# Altium integrated library ST Comm CODEC Filter.IntLib: 33 symbols
Pins are listed as number, name and electrical type; pins without a type are passive.

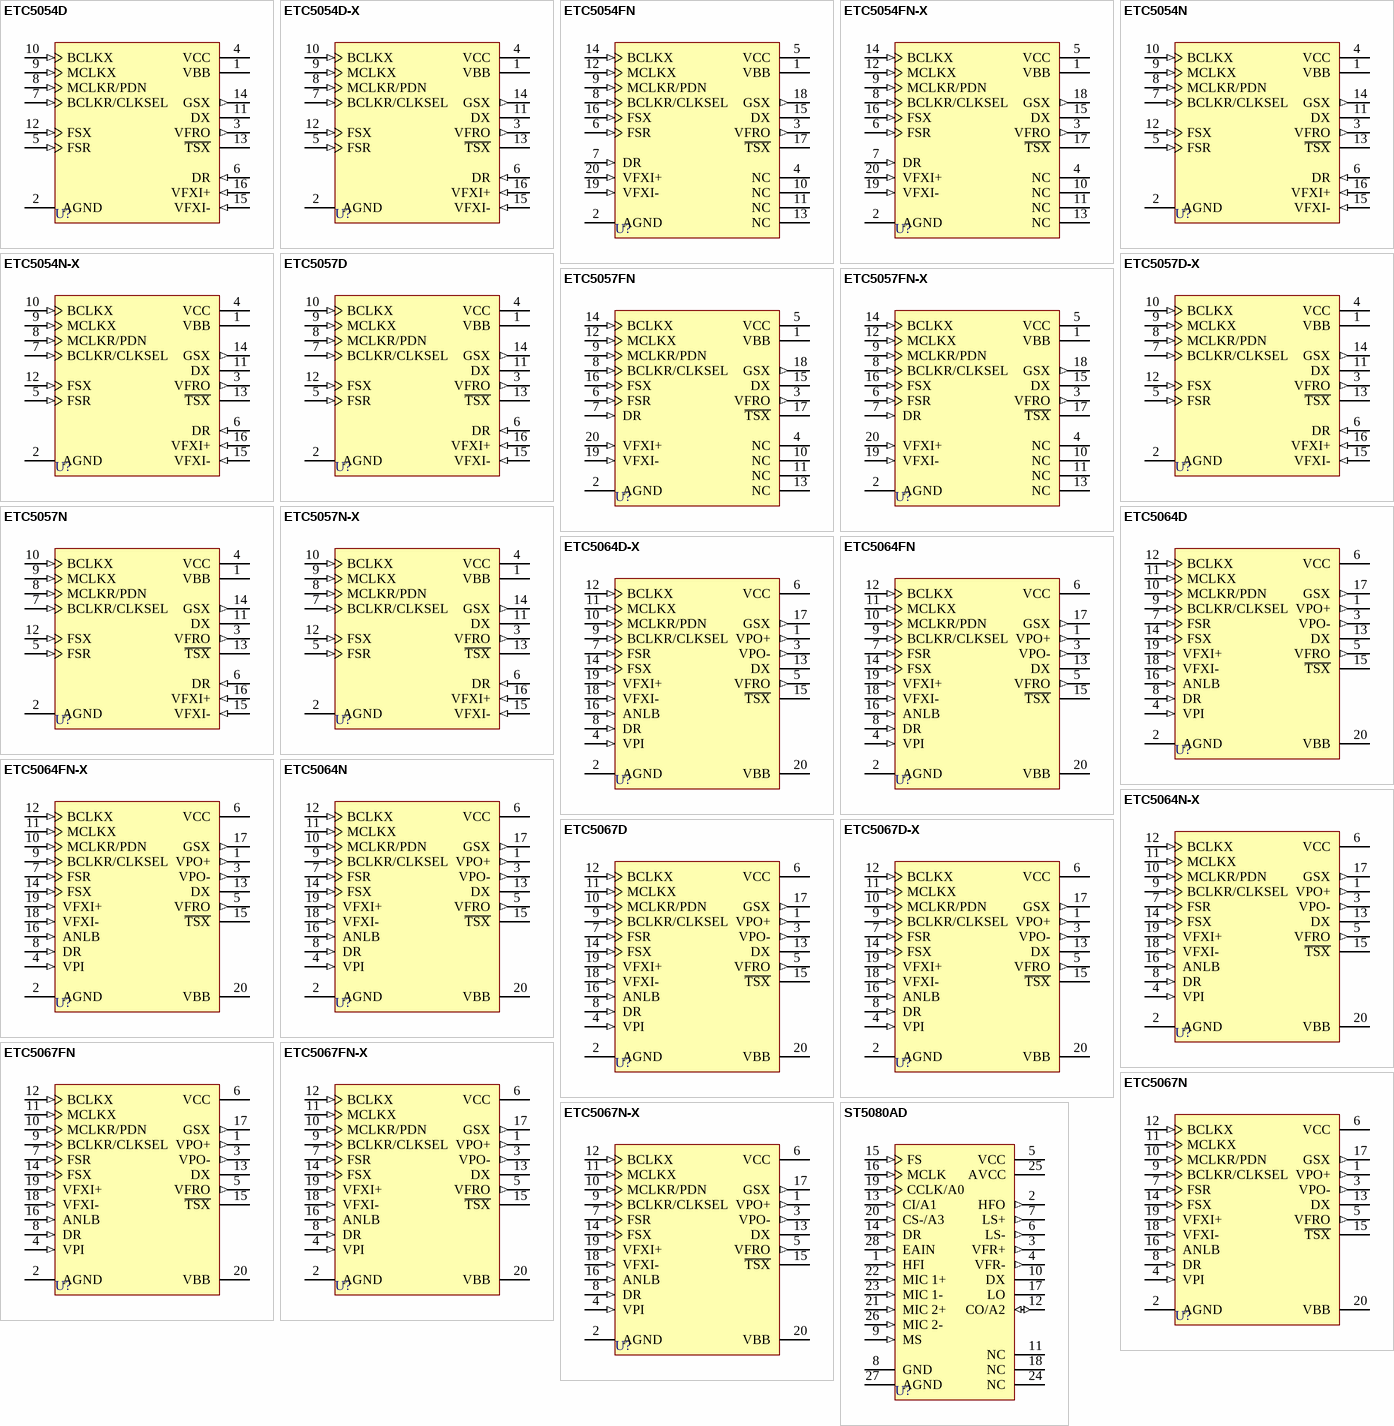
[diagram p0: symbols ETC5054D to ST5080AD]

## ETC5054D
designator U?
Serial Interface CODEC/Filter; Published: 24-Aug-2001; LatestRevisionDate: 17-Jul-2002; LatestRevisionNote: Re-released for DXP Platform.; DatasheetDocument: Nov-1994; PackageDocument: Apr-1998; PackageReference: SO16W; Publisher: Altium Limited; Code_JEDEC: MS-013-AA; Code_IPC: SO16W
footprint SO16W (Small Outline; 16 Leads; Body Width 7.5 mm; Pitch 1.27 mm)
pins: 1 VBB (power), 2 AGND (power), 3 VFRO (out), 4 VCC (power), 5 FSR (in), 6 DR (in), 7 BCLKR/CLKSEL (in), 8 MCLKR/PDN (in), 9 MCLKX (in), 10 BCLKX (in), 11 DX (hiz), 12 FSX (in), 13 ~{TSX} (oc), 14 GSX (out), 15 VFXI- (in), 16 VFXI+ (in)

## ETC5054D-X
designator U?
Serial Interface CODEC/Filter; Published: 24-Aug-2001; LatestRevisionDate: 17-Jul-2002; LatestRevisionNote: Re-released for DXP Platform.; DatasheetDocument: Nov-1994; PackageDocument: Apr-1998; PackageReference: SO16W; Publisher: Altium Limited; Code_JEDEC: MS-013-AA; Code_IPC: SO16W
footprint SO16W (Small Outline; 16 Leads; Body Width 7.5 mm; Pitch 1.27 mm)
pins: 1 VBB (power), 2 AGND (power), 3 VFRO (out), 4 VCC (power), 5 FSR (in), 6 DR (in), 7 BCLKR/CLKSEL (in), 8 MCLKR/PDN (in), 9 MCLKX (in), 10 BCLKX (in), 11 DX (hiz), 12 FSX (in), 13 ~{TSX} (oc), 14 GSX (out), 15 VFXI- (in), 16 VFXI+ (in)

## ETC5054FN
designator U?
Serial Interface CODEC/Filter; Published: 24-Aug-2001; LatestRevisionDate: 17-Jul-2002; LatestRevisionNote: Re-released for DXP Platform.; DatasheetDocument: Nov-1994; PackageDocument: Mar-1992; PackageReference: PLCC20; Publisher: Altium Limited
footprint PLCC20 (Leaded Chip Carrier; 20 Leads; Body 9 x 9 mm)
pins: 1 VBB (power), 2 AGND (power), 3 VFRO (out), 4 NC, 5 VCC (power), 6 FSR (in), 7 DR (in), 8 BCLKR/CLKSEL (in), 9 MCLKR/PDN (in), 10 NC, 11 NC, 12 MCLKX (in), 13 NC, 14 BCLKX (in), 15 DX (hiz), 16 FSX (in), 17 ~{TSX} (oc), 18 GSX (out), 19 VFXI- (in), 20 VFXI+ (in)

## ETC5054FN-X
designator U?
Serial Interface CODEC/Filter; Published: 24-Aug-2001; LatestRevisionDate: 17-Jul-2002; LatestRevisionNote: Re-released for DXP Platform.; DatasheetDocument: Nov-1994; PackageDocument: Mar-1992; PackageReference: PLCC20; Publisher: Altium Limited
footprint PLCC20 (Leaded Chip Carrier; 20 Leads; Body 9 x 9 mm)
pins: 1 VBB (power), 2 AGND (power), 3 VFRO (out), 4 NC, 5 VCC (power), 6 FSR (in), 7 DR (in), 8 BCLKR/CLKSEL (in), 9 MCLKR/PDN (in), 10 NC, 11 NC, 12 MCLKX (in), 13 NC, 14 BCLKX (in), 15 DX (hiz), 16 FSX (in), 17 ~{TSX} (oc), 18 GSX (out), 19 VFXI- (in), 20 VFXI+ (in)

## ETC5054N
designator U?
Serial Interface CODEC/Filter; Published: 24-Aug-2001; LatestRevisionDate: 17-Jul-2002; LatestRevisionNote: Re-released for DXP Platform.; DatasheetDocument: Nov-1994; PackageDocument: Apr-1996; PackageReference: DIP16; Publisher: Altium Limited
footprint DIP16 (DIP; 16 Leads; Row Spacing 7.62 mm; Pitch 2.54 mm)
pins: 1 VBB (power), 2 AGND (power), 3 VFRO (out), 4 VCC (power), 5 FSR (in), 6 DR (in), 7 BCLKR/CLKSEL (in), 8 MCLKR/PDN (in), 9 MCLKX (in), 10 BCLKX (in), 11 DX (hiz), 12 FSX (in), 13 ~{TSX} (oc), 14 GSX (out), 15 VFXI- (in), 16 VFXI+ (in)

## ETC5054N-X
designator U?
Serial Interface CODEC/Filter; Published: 24-Aug-2001; LatestRevisionDate: 17-Jul-2002; LatestRevisionNote: Re-released for DXP Platform.; DatasheetDocument: Nov-1994; PackageDocument: Apr-1996; PackageReference: DIP16; Publisher: Altium Limited
footprint DIP16 (DIP; 16 Leads; Row Spacing 7.62 mm; Pitch 2.54 mm)
pins: 1 VBB (power), 2 AGND (power), 3 VFRO (out), 4 VCC (power), 5 FSR (in), 6 DR (in), 7 BCLKR/CLKSEL (in), 8 MCLKR/PDN (in), 9 MCLKX (in), 10 BCLKX (in), 11 DX (hiz), 12 FSX (in), 13 ~{TSX} (oc), 14 GSX (out), 15 VFXI- (in), 16 VFXI+ (in)

## ETC5057D
designator U?
Serial Interface CODEC/Filter; Published: 24-Aug-2001; LatestRevisionDate: 17-Jul-2002; LatestRevisionNote: Re-released for DXP Platform.; DatasheetDocument: Nov-1994; PackageDocument: Apr-1998; PackageReference: SO16W; Publisher: Altium Limited; Code_JEDEC: MS-013-AA; Code_IPC: SO16W
footprint SO16W (Small Outline; 16 Leads; Body Width 7.5 mm; Pitch 1.27 mm)
pins: 1 VBB (power), 2 AGND (power), 3 VFRO (out), 4 VCC (power), 5 FSR (in), 6 DR (in), 7 BCLKR/CLKSEL (in), 8 MCLKR/PDN (in), 9 MCLKX (in), 10 BCLKX (in), 11 DX (hiz), 12 FSX (in), 13 ~{TSX} (oc), 14 GSX (out), 15 VFXI- (in), 16 VFXI+ (in)

## ETC5057D-X
designator U?
Serial Interface CODEC/Filter; Published: 24-Aug-2001; LatestRevisionDate: 17-Jul-2002; LatestRevisionNote: Re-released for DXP Platform.; DatasheetDocument: Nov-1994; PackageDocument: Apr-1998; PackageReference: SO16W; Publisher: Altium Limited; Code_JEDEC: MS-013-AA; Code_IPC: SO16W
footprint SO16W (Small Outline; 16 Leads; Body Width 7.5 mm; Pitch 1.27 mm)
pins: 1 VBB (power), 2 AGND (power), 3 VFRO (out), 4 VCC (power), 5 FSR (in), 6 DR (in), 7 BCLKR/CLKSEL (in), 8 MCLKR/PDN (in), 9 MCLKX (in), 10 BCLKX (in), 11 DX (hiz), 12 FSX (in), 13 ~{TSX} (oc), 14 GSX (out), 15 VFXI- (in), 16 VFXI+ (in)

## ETC5057FN
designator U?
Serial Interface CODEC/Filter; Published: 24-Aug-2001; LatestRevisionDate: 17-Jul-2002; LatestRevisionNote: Re-released for DXP Platform.; DatasheetDocument: Nov-1994; PackageDocument: Mar-1992; PackageReference: PLCC20; Publisher: Altium Limited
footprint PLCC20 (Leaded Chip Carrier; 20 Leads; Body 9 x 9 mm)
pins: 1 VBB (power), 2 AGND (power), 3 VFRO (out), 4 NC, 5 VCC (power), 6 FSR (in), 7 DR (in), 8 BCLKR/CLKSEL (in), 9 MCLKR/PDN (in), 10 NC, 11 NC, 12 MCLKX (in), 13 NC, 14 BCLKX (in), 15 DX (hiz), 16 FSX (in), 17 ~{TSX} (oc), 18 GSX (out), 19 VFXI- (in), 20 VFXI+ (in)

## ETC5057FN-X
designator U?
Serial Interface CODEC/Filter; Published: 24-Aug-2001; LatestRevisionDate: 17-Jul-2002; LatestRevisionNote: Re-released for DXP Platform.; DatasheetDocument: Nov-1994; PackageDocument: Mar-1992; PackageReference: PLCC20; Publisher: Altium Limited
footprint PLCC20 (Leaded Chip Carrier; 20 Leads; Body 9 x 9 mm)
pins: 1 VBB (power), 2 AGND (power), 3 VFRO (out), 4 NC, 5 VCC (power), 6 FSR (in), 7 DR (in), 8 BCLKR/CLKSEL (in), 9 MCLKR/PDN (in), 10 NC, 11 NC, 12 MCLKX (in), 13 NC, 14 BCLKX (in), 15 DX (hiz), 16 FSX (in), 17 ~{TSX} (oc), 18 GSX (out), 19 VFXI- (in), 20 VFXI+ (in)

## ETC5057N
designator U?
Serial Interface CODEC/Filter; Published: 24-Aug-2001; LatestRevisionDate: 17-Jul-2002; LatestRevisionNote: Re-released for DXP Platform.; DatasheetDocument: Nov-1994; PackageDocument: Apr-1996; PackageReference: DIP16; Publisher: Altium Limited
footprint DIP16 (DIP; 16 Leads; Row Spacing 7.62 mm; Pitch 2.54 mm)
pins: 1 VBB (power), 2 AGND (power), 3 VFRO (out), 4 VCC (power), 5 FSR (in), 6 DR (in), 7 BCLKR/CLKSEL (in), 8 MCLKR/PDN (in), 9 MCLKX (in), 10 BCLKX (in), 11 DX (hiz), 12 FSX (in), 13 ~{TSX} (oc), 14 GSX (out), 15 VFXI- (in), 16 VFXI+ (in)

## ETC5057N-X
designator U?
Serial Interface CODEC/Filter; Published: 24-Aug-2001; LatestRevisionDate: 17-Jul-2002; LatestRevisionNote: Re-released for DXP Platform.; DatasheetDocument: Nov-1994; PackageDocument: Apr-1996; PackageReference: DIP16; Publisher: Altium Limited
footprint DIP16 (DIP; 16 Leads; Row Spacing 7.62 mm; Pitch 2.54 mm)
pins: 1 VBB (power), 2 AGND (power), 3 VFRO (out), 4 VCC (power), 5 FSR (in), 6 DR (in), 7 BCLKR/CLKSEL (in), 8 MCLKR/PDN (in), 9 MCLKX (in), 10 BCLKX (in), 11 DX (hiz), 12 FSX (in), 13 ~{TSX} (oc), 14 GSX (out), 15 VFXI- (in), 16 VFXI+ (in)

## ETC5064D
designator U?
Serial Interface CODEC/Filter with Receive Power Amplifier; Published: 24-Aug-2001; LatestRevisionDate: 17-Jul-2002; LatestRevisionNote: Re-released for DXP Platform.; DatasheetDocument: Nov-1994; PackageDocument: Jul-2001; PackageReference: SO20; Publisher: Altium Limited; Code_JEDEC: MS-013-AC; Code_IPC: SO20W
footprint SO20 (Small Outline, Plastic; 20 Leads; Body Width 7.5 mm; Pitch 1.27 mm)
pins: 1 VPO+ (out), 2 AGND (power), 3 VPO- (out), 4 VPI (in), 5 VFRO (out), 6 VCC (power), 7 FSR (in), 8 DR (in), 9 BCLKR/CLKSEL (in), 10 MCLKR/PDN (in), 11 MCLKX (in), 12 BCLKX (in), 13 DX (hiz), 14 FSX (in), 15 ~{TSX} (oc), 16 ANLB (in), 17 GSX (out), 18 VFXI- (in), 19 VFXI+ (in), 20 VBB (power)

## ETC5064D-X
designator U?
Serial Interface CODEC/Filter with Receive Power Amplifier; Published: 24-Aug-2001; LatestRevisionDate: 17-Jul-2002; LatestRevisionNote: Re-released for DXP Platform.; DatasheetDocument: Nov-1994; PackageDocument: Jul-2001; PackageReference: SO20; Publisher: Altium Limited; Code_JEDEC: MS-013-AC; Code_IPC: SO20W
footprint SO20 (Small Outline, Plastic; 20 Leads; Body Width 7.5 mm; Pitch 1.27 mm)
pins: 1 VPO+ (out), 2 AGND (power), 3 VPO- (out), 4 VPI (in), 5 VFRO (out), 6 VCC (power), 7 FSR (in), 8 DR (in), 9 BCLKR/CLKSEL (in), 10 MCLKR/PDN (in), 11 MCLKX (in), 12 BCLKX (in), 13 DX (hiz), 14 FSX (in), 15 ~{TSX} (oc), 16 ANLB (in), 17 GSX (out), 18 VFXI- (in), 19 VFXI+ (in), 20 VBB (power)

## ETC5064FN
designator U?
Serial Interface CODEC/Filter with Receive Power Amplifier; Published: 24-Aug-2001; LatestRevisionDate: 17-Jul-2002; LatestRevisionNote: Re-released for DXP Platform.; DatasheetDocument: Nov-1994; PackageDocument: Mar-1992; PackageReference: PLCC20; Publisher: Altium Limited
footprint PLCC20 (Leaded Chip Carrier; 20 Leads; Body 9 x 9 mm)
pins: 1 VPO+ (out), 2 AGND (power), 3 VPO- (out), 4 VPI (in), 5 VFRO (out), 6 VCC (power), 7 FSR (in), 8 DR (in), 9 BCLKR/CLKSEL (in), 10 MCLKR/PDN (in), 11 MCLKX (in), 12 BCLKX (in), 13 DX (hiz), 14 FSX (in), 15 ~{TSX} (oc), 16 ANLB (in), 17 GSX (out), 18 VFXI- (in), 19 VFXI+ (in), 20 VBB (power)

## ETC5064FN-X
designator U?
Serial Interface CODEC/Filter with Receive Power Amplifier; Published: 24-Aug-2001; LatestRevisionDate: 17-Jul-2002; LatestRevisionNote: Re-released for DXP Platform.; DatasheetDocument: Nov-1994; PackageDocument: Mar-1992; PackageReference: PLCC20; Publisher: Altium Limited
footprint PLCC20 (Leaded Chip Carrier; 20 Leads; Body 9 x 9 mm)
pins: 1 VPO+ (out), 2 AGND (power), 3 VPO- (out), 4 VPI (in), 5 VFRO (out), 6 VCC (power), 7 FSR (in), 8 DR (in), 9 BCLKR/CLKSEL (in), 10 MCLKR/PDN (in), 11 MCLKX (in), 12 BCLKX (in), 13 DX (hiz), 14 FSX (in), 15 ~{TSX} (oc), 16 ANLB (in), 17 GSX (out), 18 VFXI- (in), 19 VFXI+ (in), 20 VBB (power)

## ETC5064N
designator U?
Serial Interface CODEC/Filter with Receive Power Amplifier; Published: 24-Aug-2001; LatestRevisionDate: 17-Jul-2002; LatestRevisionNote: Re-released for DXP Platform.; DatasheetDocument: Nov-1994; PackageDocument: Jun-1998; PackageReference: DIP20; Publisher: Altium Limited; Code_JEDEC: MS-015-AE
footprint DIP20 (DIP; 20 Leads; Row Spacing 7.62 mm; Pitch 2.54 mm)
pins: 1 VPO+ (out), 2 AGND (power), 3 VPO- (out), 4 VPI (in), 5 VFRO (out), 6 VCC (power), 7 FSR (in), 8 DR (in), 9 BCLKR/CLKSEL (in), 10 MCLKR/PDN (in), 11 MCLKX (in), 12 BCLKX (in), 13 DX (hiz), 14 FSX (in), 15 ~{TSX} (oc), 16 ANLB (in), 17 GSX (out), 18 VFXI- (in), 19 VFXI+ (in), 20 VBB (power)

## ETC5064N-X
designator U?
Serial Interface CODEC/Filter with Receive Power Amplifier; Published: 24-Aug-2001; LatestRevisionDate: 17-Jul-2002; LatestRevisionNote: Re-released for DXP Platform.; DatasheetDocument: Nov-1994; PackageDocument: Jun-1998; PackageReference: DIP20; Publisher: Altium Limited; Code_JEDEC: MS-015-AE
footprint DIP20 (DIP; 20 Leads; Row Spacing 7.62 mm; Pitch 2.54 mm)
pins: 1 VPO+ (out), 2 AGND (power), 3 VPO- (out), 4 VPI (in), 5 VFRO (out), 6 VCC (power), 7 FSR (in), 8 DR (in), 9 BCLKR/CLKSEL (in), 10 MCLKR/PDN (in), 11 MCLKX (in), 12 BCLKX (in), 13 DX (hiz), 14 FSX (in), 15 ~{TSX} (oc), 16 ANLB (in), 17 GSX (out), 18 VFXI- (in), 19 VFXI+ (in), 20 VBB (power)

## ETC5067D
designator U?
Serial Interface CODEC/Filter with Receive Power Amplifier; Published: 24-Aug-2001; LatestRevisionDate: 17-Jul-2002; LatestRevisionNote: Re-released for DXP Platform.; DatasheetDocument: Nov-1994; PackageDocument: Jul-2001; PackageReference: SO20; Publisher: Altium Limited; Code_JEDEC: MS-013-AC; Code_IPC: SO20W
footprint SO20 (Small Outline, Plastic; 20 Leads; Body Width 7.5 mm; Pitch 1.27 mm)
pins: 1 VPO+ (out), 2 AGND (power), 3 VPO- (out), 4 VPI (in), 5 VFRO (out), 6 VCC (power), 7 FSR (in), 8 DR (in), 9 BCLKR/CLKSEL (in), 10 MCLKR/PDN (in), 11 MCLKX (in), 12 BCLKX (in), 13 DX (hiz), 14 FSX (in), 15 ~{TSX} (oc), 16 ANLB (in), 17 GSX (out), 18 VFXI- (in), 19 VFXI+ (in), 20 VBB (power)

## ETC5067D-X
designator U?
Serial Interface CODEC/Filter with Receive Power Amplifier; Published: 24-Aug-2001; LatestRevisionDate: 17-Jul-2002; LatestRevisionNote: Re-released for DXP Platform.; DatasheetDocument: Nov-1994; PackageDocument: Jul-2001; PackageReference: SO20; Publisher: Altium Limited; Code_JEDEC: MS-013-AC; Code_IPC: SO20W
footprint SO20 (Small Outline, Plastic; 20 Leads; Body Width 7.5 mm; Pitch 1.27 mm)
pins: 1 VPO+ (out), 2 AGND (power), 3 VPO- (out), 4 VPI (in), 5 VFRO (out), 6 VCC (power), 7 FSR (in), 8 DR (in), 9 BCLKR/CLKSEL (in), 10 MCLKR/PDN (in), 11 MCLKX (in), 12 BCLKX (in), 13 DX (hiz), 14 FSX (in), 15 ~{TSX} (oc), 16 ANLB (in), 17 GSX (out), 18 VFXI- (in), 19 VFXI+ (in), 20 VBB (power)

## ETC5067FN
designator U?
Serial Interface CODEC/Filter with Receive Power Amplifier; Published: 24-Aug-2001; LatestRevisionDate: 17-Jul-2002; LatestRevisionNote: Re-released for DXP Platform.; DatasheetDocument: Nov-1994; PackageDocument: Mar-1992; PackageReference: PLCC20; Publisher: Altium Limited
footprint PLCC20 (Leaded Chip Carrier; 20 Leads; Body 9 x 9 mm)
pins: 1 VPO+ (out), 2 AGND (power), 3 VPO- (out), 4 VPI (in), 5 VFRO (out), 6 VCC (power), 7 FSR (in), 8 DR (in), 9 BCLKR/CLKSEL (in), 10 MCLKR/PDN (in), 11 MCLKX (in), 12 BCLKX (in), 13 DX (hiz), 14 FSX (in), 15 ~{TSX} (oc), 16 ANLB (in), 17 GSX (out), 18 VFXI- (in), 19 VFXI+ (in), 20 VBB (power)

## ETC5067FN-X
designator U?
Serial Interface CODEC/Filter with Receive Power Amplifier; Published: 24-Aug-2001; LatestRevisionDate: 17-Jul-2002; LatestRevisionNote: Re-released for DXP Platform.; DatasheetDocument: Nov-1994; PackageDocument: Mar-1992; PackageReference: PLCC20; Publisher: Altium Limited
footprint PLCC20 (Leaded Chip Carrier; 20 Leads; Body 9 x 9 mm)
pins: 1 VPO+ (out), 2 AGND (power), 3 VPO- (out), 4 VPI (in), 5 VFRO (out), 6 VCC (power), 7 FSR (in), 8 DR (in), 9 BCLKR/CLKSEL (in), 10 MCLKR/PDN (in), 11 MCLKX (in), 12 BCLKX (in), 13 DX (hiz), 14 FSX (in), 15 ~{TSX} (oc), 16 ANLB (in), 17 GSX (out), 18 VFXI- (in), 19 VFXI+ (in), 20 VBB (power)

## ETC5067N
designator U?
Serial Interface CODEC/Filter with Receive Power Amplifier; Published: 24-Aug-2001; LatestRevisionDate: 17-Jul-2002; LatestRevisionNote: Re-released for DXP Platform.; DatasheetDocument: Nov-1994; PackageDocument: Jun-1998; PackageReference: DIP20; Publisher: Altium Limited; Code_JEDEC: MS-015-AE
footprint DIP20 (DIP; 20 Leads; Row Spacing 7.62 mm; Pitch 2.54 mm)
pins: 1 VPO+ (out), 2 AGND (power), 3 VPO- (out), 4 VPI (in), 5 VFRO (out), 6 VCC (power), 7 FSR (in), 8 DR (in), 9 BCLKR/CLKSEL (in), 10 MCLKR/PDN (in), 11 MCLKX (in), 12 BCLKX (in), 13 DX (hiz), 14 FSX (in), 15 ~{TSX} (oc), 16 ANLB (in), 17 GSX (out), 18 VFXI- (in), 19 VFXI+ (in), 20 VBB (power)

## ETC5067N-X
designator U?
Serial Interface CODEC/Filter with Receive Power Amplifier; Published: 24-Aug-2001; LatestRevisionDate: 17-Jul-2002; LatestRevisionNote: Re-released for DXP Platform.; DatasheetDocument: Nov-1994; PackageDocument: Jun-1998; PackageReference: DIP20; Publisher: Altium Limited; Code_JEDEC: MS-015-AE
footprint DIP20 (DIP; 20 Leads; Row Spacing 7.62 mm; Pitch 2.54 mm)
pins: 1 VPO+ (out), 2 AGND (power), 3 VPO- (out), 4 VPI (in), 5 VFRO (out), 6 VCC (power), 7 FSR (in), 8 DR (in), 9 BCLKR/CLKSEL (in), 10 MCLKR/PDN (in), 11 MCLKX (in), 12 BCLKX (in), 13 DX (hiz), 14 FSX (in), 15 ~{TSX} (oc), 16 ANLB (in), 17 GSX (out), 18 VFXI- (in), 19 VFXI+ (in), 20 VBB (power)

## ST5080AD
designator U?
PIAFE Programmable ISDN Audio Front-End; Published: 24-Aug-2001; LatestRevisionDate: 17-Jul-2002; LatestRevisionNote: Re-released for DXP Platform.; DatasheetDocument: Dec-1994; PackageDocument: Jul-2001; PackageReference: SO28; Publisher: Altium Limited; Code_IPC: SO28W
footprint SO28 (Small Outline, Plastic; 28 Leads; Body Width 7.5 mm; Pitch 1.27 mm)
pins: 1 HFI (in), 2 HFO (out), 3 VFR+ (out), 4 VFR- (out), 5 VCC (power), 6 LS- (out), 7 LS+ (out), 8 GND (power), 9 MS (in), 10 DX (hiz), 11 NC, 12 CO/A2 (io), 13 CI/A1 (in), 14 DR (in), 15 FS (in), 16 MCLK (in), 17 LO (oc), 18 NC, 19 CCLK/A0 (in), 20 CS-/A3 (in), 21 MIC 2+ (in), 22 MIC 1+ (in), 23 MIC 1- (in), 24 NC, 25 AVCC (power), 26 MIC 2- (in), 27 AGND (power), 28 EAIN (in)

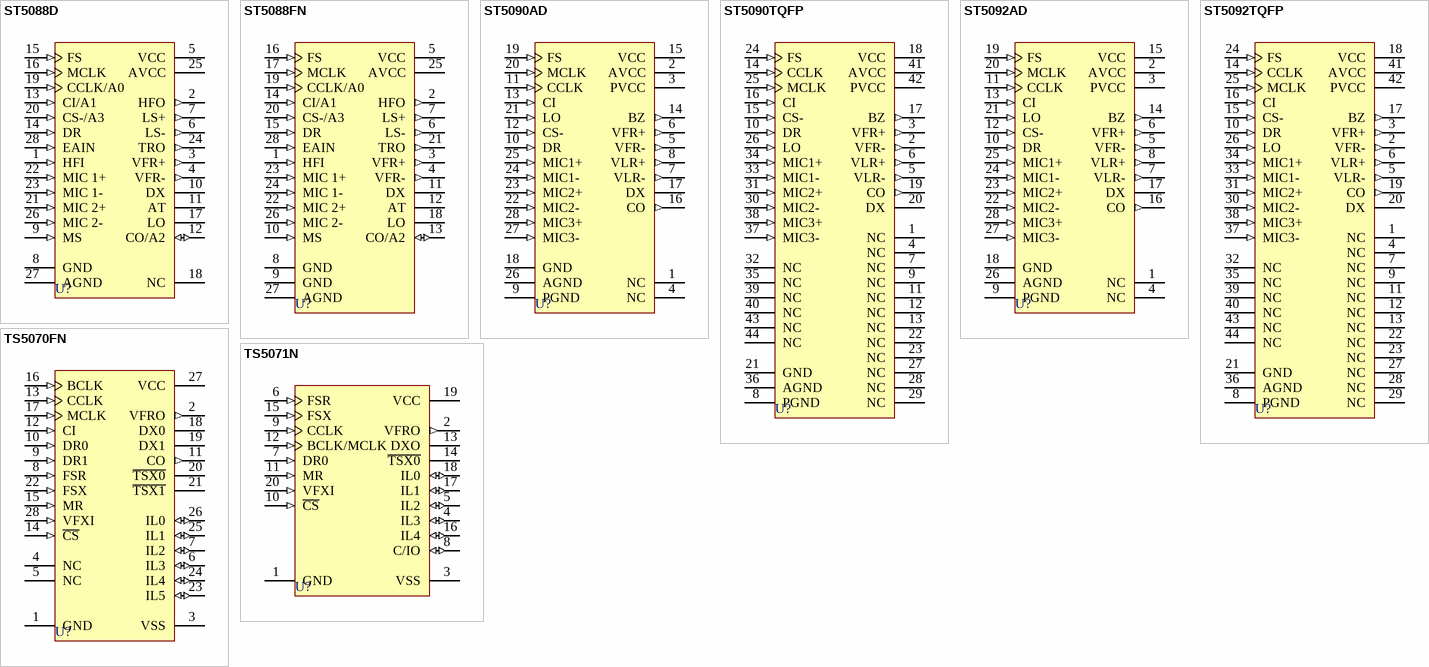
[diagram p1: symbols ST5088D to TS5071N]

## ST5088D
designator U?
PIAFE Programmable ISDN Audio Front-End; Published: 24-Aug-2001; LatestRevisionDate: 17-Jul-2002; LatestRevisionNote: Re-released for DXP Platform.; DatasheetDocument: Dec-1994; PackageDocument: Jul-2001; PackageReference: SO28; Publisher: Altium Limited; Code_IPC: SO28W
footprint SO28 (Small Outline, Plastic; 28 Leads; Body Width 7.5 mm; Pitch 1.27 mm)
pins: 1 HFI (in), 2 HFO (out), 3 VFR+ (out), 4 VFR- (out), 5 VCC (power), 6 LS- (out), 7 LS+ (out), 8 GND (power), 9 MS (in), 10 DX (hiz), 11 AT (hiz), 12 CO/A2 (io), 13 CI/A1 (in), 14 DR (in), 15 FS (in), 16 MCLK (in), 17 LO (oc), 18 NC, 19 CCLK/A0 (in), 20 CS-/A3 (in), 21 MIC 2+ (in), 22 MIC 1+ (in), 23 MIC 1- (in), 24 TRO (out), 25 AVCC (power), 26 MIC 2- (in), 27 AGND (power), 28 EAIN (in)

## ST5088FN
designator U?
PIAFE Programmable ISDN Audio Front-End; Published: 24-Aug-2001; LatestRevisionDate: 17-Jul-2002; LatestRevisionNote: Re-released for DXP Platform.; DatasheetDocument: Dec-1994; PackageDocument: Jan-1995; PackageReference: PLCC28; Publisher: Altium Limited; Code_IPC: PLCC-28
footprint PLCC28 (Leaded Chip Carrier; 28 Leads; Body 11.5 x 11.5 mm)
pins: 1 HFI (in), 2 HFO (out), 3 VFR+ (out), 4 VFR- (out), 5 VCC (power), 6 LS- (out), 7 LS+ (out), 8 GND (power), 9 GND (power), 10 MS (in), 11 DX (hiz), 12 AT (hiz), 13 CO/A2 (io), 14 CI/A1 (in), 15 DR (in), 16 FS (in), 17 MCLK (in), 18 LO (oc), 19 CCLK/A0 (in), 20 CS-/A3 (in), 21 TRO (out), 22 MIC 2+ (in), 23 MIC 1+ (in), 24 MIC 1- (in), 25 AVCC (power), 26 MIC 2- (in), 27 AGND (power), 28 EAIN (in)

## ST5090AD
designator U?
Low Voltage 14-Bit Linear CODEC with High-Performance Audio Front-End; Published: 24-Aug-2001; LatestRevisionDate: 17-Jul-2002; LatestRevisionNote: Re-released for DXP Platform.; DatasheetDocument: Feb-1996; PackageDocument: Jul-2001; PackageReference: SO28; Publisher: Altium Limited; Code_IPC: SO28W
footprint SO28 (Small Outline, Plastic; 28 Leads; Body Width 7.5 mm; Pitch 1.27 mm)
pins: 1 NC, 2 AVCC (power), 3 PVCC (power), 4 NC, 5 VFR- (out), 6 VFR+ (out), 7 VLR- (out), 8 VLR+ (out), 9 PGND (power), 10 DR (in), 11 CCLK (in), 12 CS- (in), 13 CI (in), 14 BZ (out), 15 VCC (power), 16 CO (out), 17 DX (hiz), 18 GND (power), 19 FS (in), 20 MCLK (in), 21 LO (in), 22 MIC2- (in), 23 MIC2+ (in), 24 MIC1- (in), 25 MIC1+ (in), 26 AGND (power), 27 MIC3- (in), 28 MIC3+ (in)

## ST5090TQFP
designator U?
Low Voltage 14-Bit Linear CODEC with High-Performance Audio Front-End; Published: 24-Aug-2001; LatestRevisionDate: 17-Jul-2002; LatestRevisionNote: Re-released for DXP Platform.; DatasheetDocument: Feb-1996; PackageDocument: Oct-2003; PackageReference: TQFP44; Publisher: Altium Limited
footprint TQFP44 (QFP, Plastic, Thin; 44 Leads; Body 10 x 10 mm; Pitch 0.8 mm)
pins: 1 NC, 2 VFR- (out), 3 VFR+ (out), 4 NC, 5 VLR- (out), 6 VLR+ (out), 7 NC, 8 PGND (power), 9 NC, 10 DR (in), 11 NC, 12 NC, 13 NC, 14 CCLK (in), 15 CS- (in), 16 CI (in), 17 BZ (out), 18 VCC (power), 19 CO (out), 20 DX (hiz), 21 GND (power), 22 NC, 23 NC, 24 FS (in), 25 MCLK (in), 26 LO (in), 27 NC, 28 NC, 29 NC, 30 MIC2- (in), 31 MIC2+ (in), 32 NC, 33 MIC1- (in), 34 MIC1+ (in), 35 NC, 36 AGND (power), 37 MIC3- (in), 38 MIC3+ (in), 39 NC, 40 NC, 41 AVCC (power), 42 PVCC (power), 43 NC, 44 NC

## ST5092AD
designator U?
2.7V Supply 14-Bit Linear CODEC with High-Performance Audio Front-End; Published: 24-Aug-2001; LatestRevisionDate: 17-Jul-2002; LatestRevisionNote: Re-released for DXP Platform.; DatasheetDocument: Jun-1997; PackageDocument: Jul-2001; PackageReference: SO28; Publisher: Altium Limited; Code_IPC: SO28W
footprint SO28 (Small Outline, Plastic; 28 Leads; Body Width 7.5 mm; Pitch 1.27 mm)
pins: 1 NC, 2 AVCC (power), 3 PVCC (power), 4 NC, 5 VFR- (out), 6 VFR+ (out), 7 VLR- (out), 8 VLR+ (out), 9 PGND (power), 10 DR (in), 11 CCLK (in), 12 CS- (in), 13 CI (in), 14 BZ (out), 15 VCC (power), 16 CO (out), 17 DX (hiz), 18 GND (power), 19 FS (in), 20 MCLK (in), 21 LO (in), 22 MIC2- (in), 23 MIC2+ (in), 24 MIC1- (in), 25 MIC1+ (in), 26 AGND (power), 27 MIC3- (in), 28 MIC3+ (in)

## ST5092TQFP
designator U?
2.7V Supply 14-Bit Linear CODEC with High-Performance Audio Front-End; Published: 24-Aug-2001; LatestRevisionDate: 17-Jul-2002; LatestRevisionNote: Re-released for DXP Platform.; DatasheetDocument: Jun-1997; PackageDocument: Oct-2003; PackageReference: TQFP44; Publisher: Altium Limited
footprint TQFP44 (QFP, Plastic, Thin; 44 Leads; Body 10 x 10 mm; Pitch 0.8 mm)
pins: 1 NC, 2 VFR- (out), 3 VFR+ (out), 4 NC, 5 VLR- (out), 6 VLR+ (out), 7 NC, 8 PGND (power), 9 NC, 10 DR (in), 11 NC, 12 NC, 13 NC, 14 CCLK (in), 15 CS- (in), 16 CI (in), 17 BZ (out), 18 VCC (power), 19 CO (out), 20 DX (hiz), 21 GND (power), 22 NC, 23 NC, 24 FS (in), 25 MCLK (in), 26 LO (in), 27 NC, 28 NC, 29 NC, 30 MIC2- (in), 31 MIC2+ (in), 32 NC, 33 MIC1- (in), 34 MIC1+ (in), 35 NC, 36 AGND (power), 37 MIC3- (in), 38 MIC3+ (in), 39 NC, 40 NC, 41 AVCC (power), 42 PVCC (power), 43 NC, 44 NC

## TS5070FN
designator U?
Programmable CODEC/Filter Combo 2nd Generation; Published: 24-Aug-2001; LatestRevisionDate: 17-Jul-2002; LatestRevisionNote: Re-released for DXP Platform.; DatasheetDocument: Dec-1997; PackageDocument: Jan-1995; PackageReference: PLCC28; Publisher: Altium Limited; Code_IPC: PLCC-28
footprint PLCC28 (Leaded Chip Carrier; 28 Leads; Body 11.5 x 11.5 mm)
pins: 1 GND (power), 2 VFRO (out), 3 VSS (power), 4 NC, 5 NC, 6 IL3 (io), 7 IL2 (io), 8 FSR (in), 9 DR1 (in), 10 DR0 (in), 11 CO (out), 12 CI (in), 13 CCLK (in), 14 ~{CS} (in), 15 MR (in), 16 BCLK (in), 17 MCLK (in), 18 DX0 (hiz), 19 DX1 (hiz), 20 ~{TSX0} (oc), 21 ~{TSX1} (oc), 22 FSX (in), 23 IL5 (io), 24 IL4 (io), 25 IL1 (io), 26 IL0 (io), 27 VCC (power), 28 VFXI (in)

## TS5071N
designator U?
Programmable CODEC/Filter Combo 2nd Generation; Published: 24-Aug-2001; LatestRevisionDate: 17-Jul-2002; LatestRevisionNote: Re-released for DXP Platform.; DatasheetDocument: Dec-1997; PackageDocument: Jun-1998; PackageReference: DIP20; Publisher: Altium Limited; Code_JEDEC: MS-015-AE
footprint DIP20 (DIP; 20 Leads; Row Spacing 7.62 mm; Pitch 2.54 mm)
pins: 1 GND (power), 2 VFRO (out), 3 VSS (power), 4 IL3 (io), 5 IL2 (io), 6 FSR (in), 7 DR0 (in), 8 C/IO (io), 9 CCLK (in), 10 ~{CS} (in), 11 MR (in), 12 BCLK/MCLK (in), 13 DXO (hiz), 14 ~{TSX0} (oc), 15 FSX (in), 16 IL4 (io), 17 IL1 (io), 18 IL0 (io), 19 VCC (power), 20 VFXI (in)